# Altium footprint library bt2irda.PcbLib: 8 footprints
Each footprint in its own frame and in the unit in brackets; x right, y up, seen from the top. Pads: shape width x height; smd on the part's side, far side on the other; paste and mask are expansions set on the pad; w line width, h text height; cw(c..) or ccw(c..) is an arc to the next point about the centre after c.
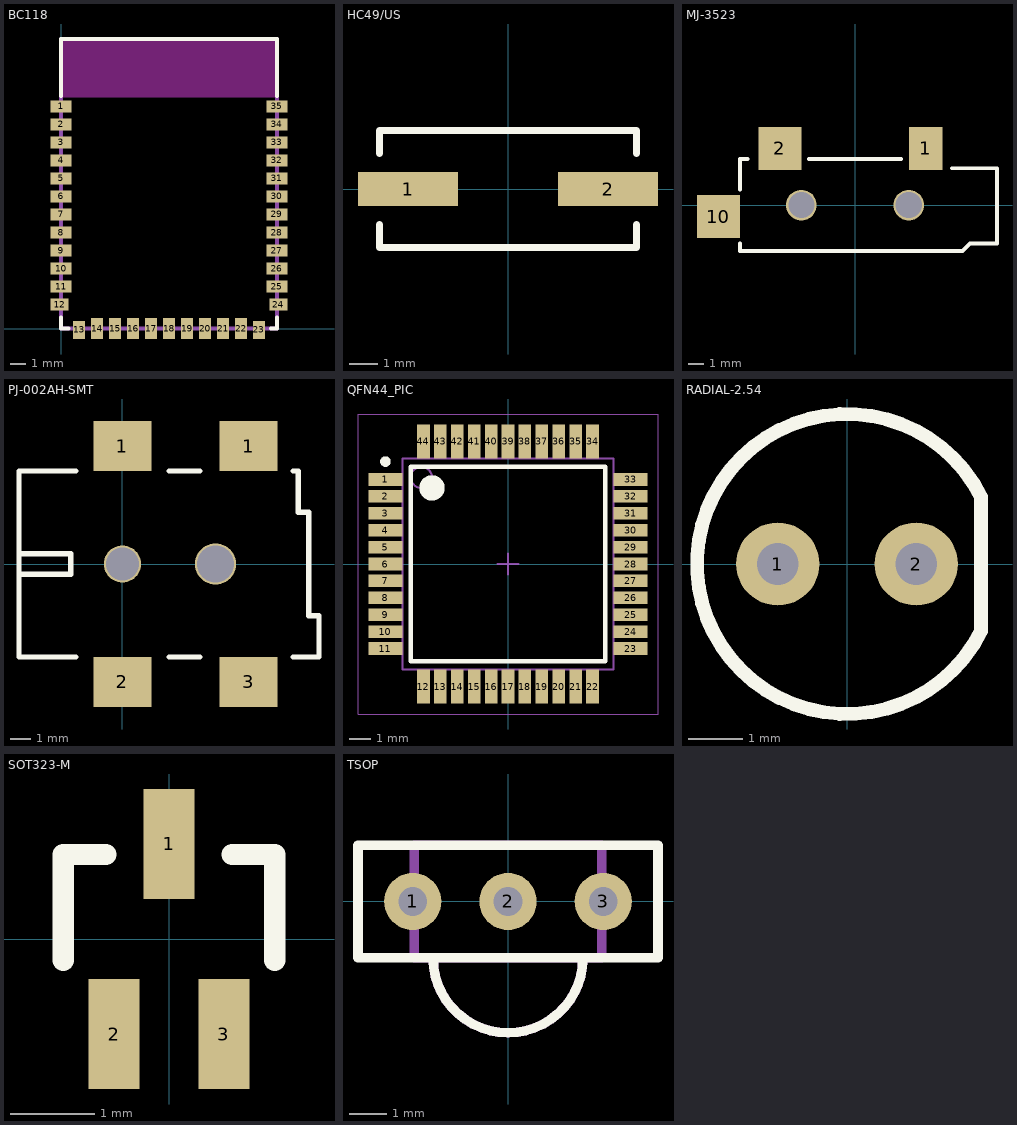
[diagram p0: the footprints below, top view; thin cyan lines are the x and y axes]

## BC118 [mm] "BC118 Bluetooth 4 BLE Module"
height 2.8
pads (35):
  rect 1.4x0.8 smd mask+0.1: 1(0,14.8) 2(0,13.6) 3(0,12.4) 4(0,11.2) 5(0,10) 6(0,8.8) 7(0,7.6) 8(0,6.4) 9(0,5.2) 10(0,4) 11(0,2.8) 25(14.4,2.8) 26(14.4,4) 27(14.4,5.2) 28(14.4,6.4) 29(14.4,7.6) 30(14.4,8.8) 31(14.4,10) 32(14.4,11.2) 33(14.4,12.4) 34(14.4,13.6) 35(14.4,14.8)
  rect 1.2x0.8 smd mask+0.1: 12(-0.1,1.6) 24(14.5,1.6)
  rect 0.8x1.2 smd mask+0.1: 13(1.2,-0.1) 23(13.2,-0.1)
  rect 0.8x1.4 smd mask+0.1: 14(2.4,0) 15(3.6,0) 16(4.8,0) 17(6,0) 18(7.2,0) 19(8.4,0) 20(9.6,0) 21(10.8,0) 22(12,0)
Top Overlay:
  lines w0.254: 0,0.75 0,0 0.5,0 ; 0,15.5 0,19.3 14.4,19.3 14.25,19.3 ; 14,0 14.4,0 14.4,0.75 ; 14.4,15.5 14.4,19.25
Keep-Out Layer:
  rectangle: 0,15.4 14.4,19.3
Mechanical 13:
  lines w0.254: 0,0 14.4,0 14.4,19.3 0,19.3 0,0
3D body: height 2.8, standoff 0, extent 0,0 14.4,19.3

## HC49/US [mm] "HC49/US"
pads (2):
  rect 3.5x1.2 smd: 1(-3.5,0) 2(3.5,0)
Top Overlay:
  lines w0.254: -4.5,-1.25 -4.5,-2.05 4.5,-2.05 4.5,-1.25 ; -4.5,1.25 -4.5,2.05 4.5,2.05 4.5,1.25
3D body: height 2.3, standoff 0, extent -4.5,-2 4.5,2

## MJ-3523 [mm] "Jack mono"
pads (5):
  rect 2.2x2.8 smd: 1(4.6,3.7)
  rect 2.8x2.8 smd: 2(-4.9,3.7) 10(-8.9,-0.75)
  round 2 hole 1.7 paste+0 mask+0: ""(-3.5,0) ""(3.5,0)
Top Overlay:
  lines w0.254: -7.5,-2.5 -7.5,-3 7,-3 7.5,-2.5 9.25,-2.5 9.25,2.4 6.3,2.4 ; -7.5,1 -7.5,3 -7,3 ; -3,3 3,3
3D body: height 5, standoff -0.8, extent -9.5,-3 9.5,4.5

## PJ-002AH-SMT [mm] "PJ-002AH-SMT"
pads (6):
  rect 2.8x2.4 smd: 1(0,5.7) 1(6.1,5.7) 2(0,-5.7) 3(6.1,-5.7)
  round 1.8 hole 1.6 paste+0 mask+0: ""(0,0)
  round 2 hole 1.8 paste+0 mask+0: ""(4.5,0)
Top Overlay:
  lines w0.254: -5,-0.5 -2.5,-0.5 -2.5,0.5 -5,0.5 ; -2.25,-4.5 -5,-4.5 -5,4.5 -2.25,4.5 ; 2.25,-4.5 3.75,-4.5 ; 2.25,4.5 3.75,4.5 ; 8.25,-4.5 9.5,-4.5 9.5,-2.5 9,-2.5 9,2.5 8.5,2.5 8.5,4.5 8.25,4.5
3D body: height 11, standoff -1.2, extent -4.9,-6.25 9.9,6.35

## QFN44_PIC [mm] "TQFP, 44-Leads, Body 10.00x10.00mm, Pitch 0.80mm, IPC Low Density"
height 1.2
pads (44):
  rect 1.6x0.6 smd: 1(-5.8,4) 2(-5.8,3.2) 3(-5.8,2.4) 4(-5.8,1.6) 5(-5.8,0.8) 6(-5.8,0) 7(-5.8,-0.8) 8(-5.8,-1.6) 9(-5.8,-2.4) 10(-5.8,-3.2) 11(-5.8,-4) 23(5.8,-4) 24(5.8,-3.2) 25(5.8,-2.4) 26(5.8,-1.6) 27(5.8,-0.8) 28(5.8,0) 29(5.8,0.8) 30(5.8,1.6) 31(5.8,2.4) 32(5.8,3.2) 33(5.8,4)
  rect 0.6x1.6 smd: 12(-4,-5.8) 13(-3.2,-5.8) 14(-2.4,-5.8) 15(-1.6,-5.8) 16(-0.8,-5.8) 17(0,-5.8) 18(0.8,-5.8) 19(1.6,-5.8) 20(2.4,-5.8) 21(3.2,-5.8) 22(4,-5.8) 34(4,5.8) 35(3.2,5.8) 36(2.4,5.8) 37(1.6,5.8) 38(0.8,5.8) 39(0,5.8) 40(-0.8,5.8) 41(-1.6,5.8) 42(-2.4,5.8) 43(-3.2,5.8) 44(-4,5.8)
Top Overlay:
  circle w0.6: c-3.6,3.6 r0.3
  circle w0.25: c-5.8,4.85 r0.125
  lines w0.2: -4.6,-4.6 4.6,-4.6 4.6,4.6 -4.6,4.6 -4.6,-4.6
Mechanical 13:
  circle w0.1: c-4.1,4.1 r0.5
  lines w0.1: -5,-5 5,-5 5,5 -5,5 -5,-5
Mechanical 15:
  lines w0.05: -7.1,-7.1 7.1,-7.1 7.1,7.1 -7.1,7.1 -7.1,-7.1
  lines w0.1: -0.5,0 0.5,0 ; 0,-0.5 0,0.5
3D body: height 1.2, standoff 0.05, extent -5,-5 5,5

## RADIAL-2.54 [mil]
pads (2):
  round 60 hole 30: 1(-50,0) 2(50,0)
Top Overlay:
  lines w10: 96.84,-48.42 cw(c0,0) 96.84,48.42 96.84,-48.42

## SOT323-M [mm] "SOT323 (SC70, SOT-323), Low density"
pads (3):
  rect 0.6x1.3 smd: 1(0,1.125) 2(-0.65,-1.125) 3(0.65,-1.125)
Top Overlay:
  lines w0.254: -1.25,-0.25 -1.25,1 -0.75,1 ; 0.75,1 1.25,1 1.25,-0.25
3D body: height 0.9, standoff 0, extent -1,-0.625 1,0.625

## TSOP [mil] "TSOP IR RECEIVER"
pads (3):
  round 60 hole 30: 1(-100,0) 2(0,0) 3(100,0)
Top Overlay:
  lines w10: -78.74,-59.06 ccw(c0,-59.06) 78.74,-59.06 ; -157.48,-59.06 -157.48,59.06 -98.43,59.06 98.43,59.06 157.48,59.06 157.48,-59.06 98.43,-59.06 -98.43,-59.06 -157.48,-59.06
Mechanical 13:
  lines w10: -78.74,-59.06 ccw(c0,-59.06) 78.74,-59.06 ; -98.43,-59.06 -98.43,59.06 98.43,59.06 98.43,-59.06 -98.43,-59.06
3D body: height 273.62, standoff 51.18, extent -98.43,-59.06 98.43,59.06